# EAGLE library part MAGJACK-A70-112-331N126 (library MAGJACK-A70-112-331N126)
1 Port RJ45 Magjack Connector Through Hole 10/100 Base-T, AutoMDIX Source: Datasheet <http://www.link-pp.com/upload/file/20180411/20180411182938293829.pdf>
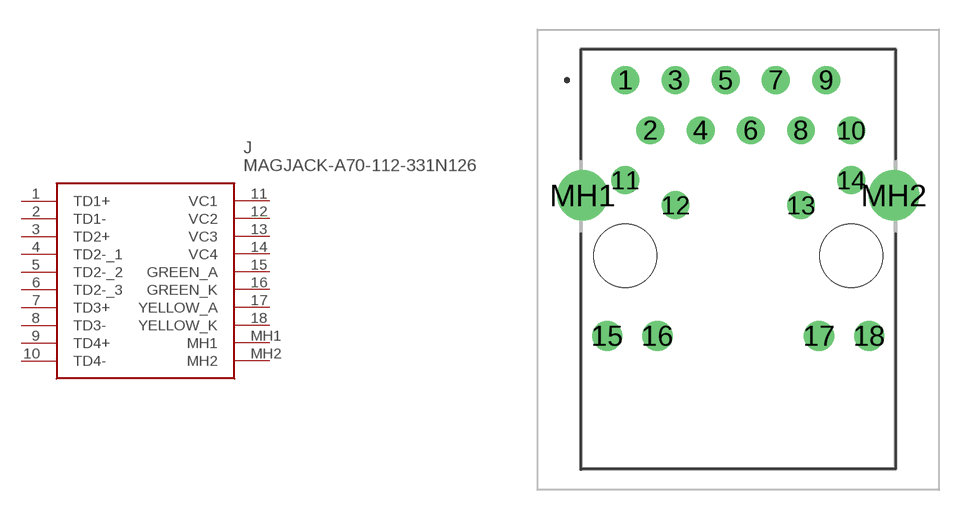
[diagram p0: symbol with the pads of MAGJACKA70112331N126; footprint MAGJACKA70112331N126]

Designator prefix J

## MAGJACK-A70-112-331N126 (Description: 1 Port RJ45 Magjack Connector Through Hole 10/100 Base-T, AutoMDIX; Height: 13.3mm; Manufacturer_Name: Bel Magnetic Solutions; Manufacturer_Part_Number: MAGJACK-A70-112-331N126)  [MAGJACKA70112331N126]
1  TD1+
2  TD1-
3  TD2+
4  TD2-_1
5  TD2-_2
6  TD2-_3
7  TD3+
8  TD3-
9  TD4+
10  TD4-
11  VC1
12  VC2
13  VC3
14  VC4
15  GREEN_A
16  GREEN_K
17  YELLOW_A
18  YELLOW_K
MH1  MH1
MH2  MH2

## Footprint MAGJACKA70112331N126 (pad centres in mm)
MAGJACK-A70-112-331N126-1
drill 0.9 pad 1.4: 1 0,0; 2 1.27,-2.54; 3 2.54,0; 4 3.81,-2.54; 5 5.08,0; 6 6.35,-2.54; 7 7.62,0; 8 8.89,-2.54; 9 10.16,0; 10 11.43,-2.54; 11 0,-5.06; 12 2.54,-6.33; 13 8.89,-6.33; 14 11.43,-5.06
drill 1.02 pad 1.53: 15 -0.915,-12.95; 16 1.625,-12.95; 17 9.805,-12.95; 18 12.345,-12.95
drill 1.7 pad 2.55: MH1 -2.16,-5.84; MH2 13.59,-5.84
hole 3.2 at 0,-8.89
hole 3.2 at 11.43,-8.89